# EAGLE library part MCP41050-I/SN (library MCP41050-I_SN)
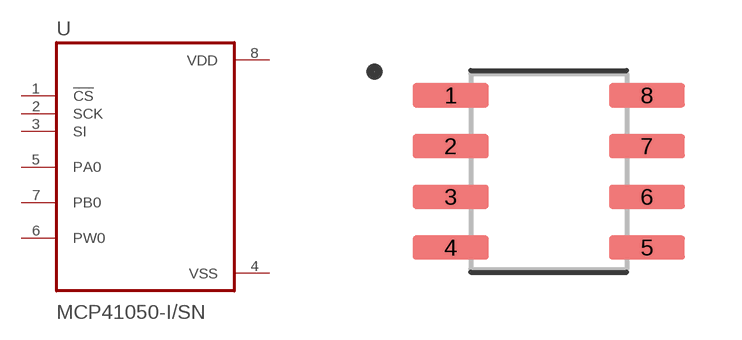
[diagram p0: symbol with the pads of SOIC127P600X175-8N; footprint SOIC127P600X175-8N]

Designator prefix -

## MCP41050-I/SN (Availability: Unavailable; Description: Digital Potentiometer 50k Ohm 1 Circuit 256 Taps SPI Interface 8-SOIC; MF: Microchip; MP: MCP41050-I/SN; Package: SOIC-8 Microchip; Price: None)  [SOIC127P600X175-8N]
1  !CS  in
2  SCK  in
3  SI  in
4  VSS  pwr
5  PA0
6  PW0
7  PB0
8  VDD  pwr

## Footprint SOIC127P600X175-8N (pad centres in mm)
smd 1.9 x 0.6: 1 -2.455,1.905; 2 -2.455,0.635; 3 -2.455,-0.635; 4 -2.455,-1.905; 5 2.455,-1.905; 6 2.455,-0.635; 7 2.455,0.635; 8 2.455,1.905